# Altium schematic symbol library SamacSys.SchLib: 234 symbols (part 1 of 3)
Pins are listed as number, name and electrical type; pins without a type are passive.

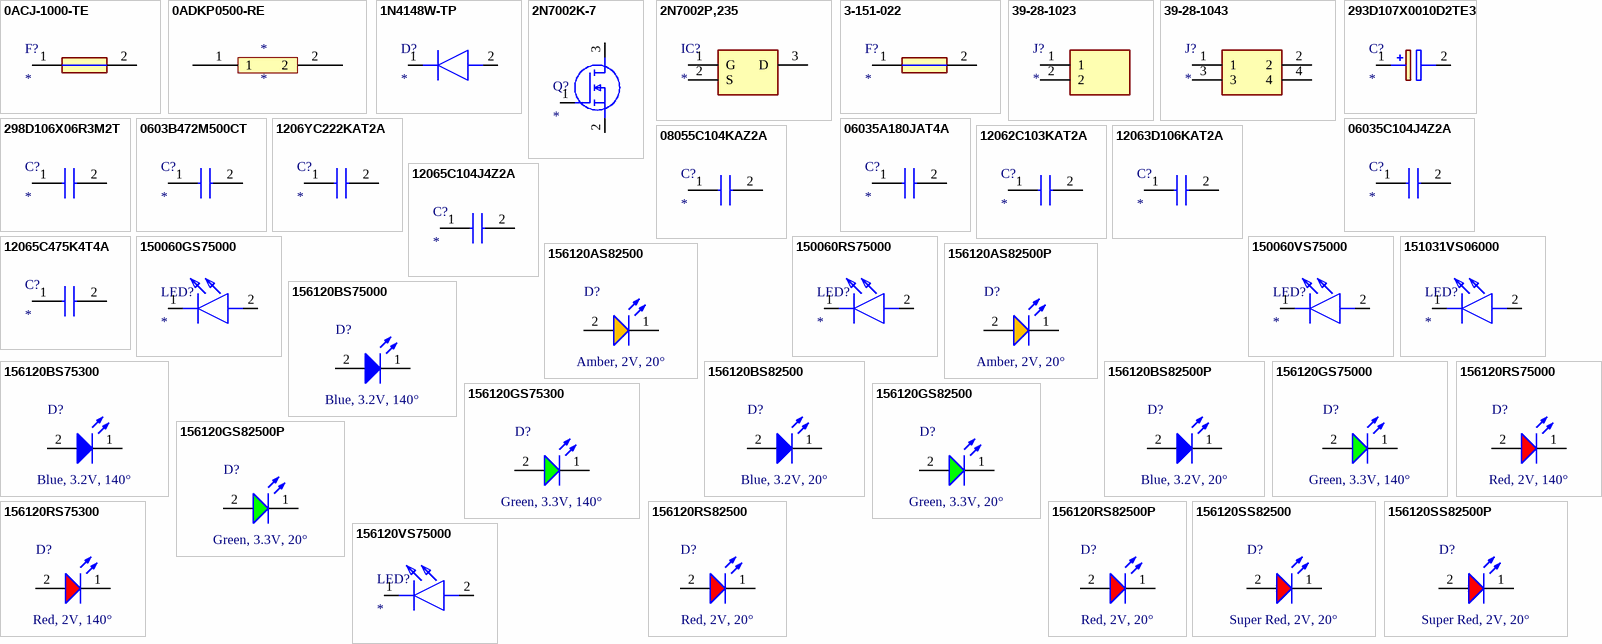
[diagram p0: symbols 0ACJ-1000-TE to 156120VS75000]

## 0ACJ-1000-TE
designator F?
Fuse; Manufacturer_Name: BelFuse; Manufacturer_Part_Number: 0ACJ-1000-TE; Datasheet Link: https://www.mouser.de/datasheet/2/643/ds_CP_0ACJ_series-3045709.pdf; Height: 5.55mm; Mouser Part Number: 530-0ACJ-1000-TE; Mouser Price/Stock: https://www.mouser.co.uk/ProductDetail/Bel-Fuse/0ACJ-1000-TE?qs=T%252BzbugeAwjiHfega9XRYqg%3D%3D; Arrow Part Number: 0ACJ-1000-TE; Arrow Price/Stock: https://www.arrow.com/en/products/0acj-1000-te/bel-group?utm_currency=USD&region=nac
footprint FUSC13250X555N
pins: 1, 2

## 0ADKP0500-RE
designator *
Fuse
footprint 0ADKP0500-RE
pins: 1, 2

## 1N4148W-TP
designator D?
Diode; Manufacturer_Name: MCC; Manufacturer_Part_Number: 1N4148W-TP; Datasheet Link: https://mccsemi.com/pdf/Products/1N4148W(SOD-123).pdf; Height: 1.35mm; Mouser Part Number: 833-1N4148W-TP; Mouser Price/Stock: https://www.mouser.co.uk/ProductDetail/Micro-Commercial-Components-MCC/1N4148W-TP?qs=KFo7JewZbUH7wCMabJ4EeQ%3D%3D; Arrow Part Number: 1N4148W-TP; Arrow Price/Stock: https://www.arrow.com/en/products/1n4148w-tp/micro-commercial-components?utm_currency=USD&region=europe
footprint SOD3715X135N
pins: 1 K, 2 A

## 2N7002K-7
designator Q?
MOSFET (N-Channel); Manufacturer_Name: Diodes Incorporated; Manufacturer_Part_Number: 2N7002K-7; Datasheet Link: https://www.diodes.com//assets/Datasheets/2N7002K.pdf; Height: 1.15mm; Mouser Part Number: 621-2N7002K-7; Mouser Price/Stock: https://www.mouser.co.uk/ProductDetail/Diodes-Incorporated/2N7002K-7?qs=rGAXPo9uwV0%2Fp9r5KJ7huA%3D%3D; Arrow Part Number: 2N7002K-7; Arrow Price/Stock: https://www.arrow.com/en/products/2n7002k-7/diodes-incorporated.html?utm_currency=USD&region=nac
footprint SOT96P240X115-3N
pins: 1 G, 2 S, 3 D

## 2N7002P,235
designator IC?
Integrated Circuit; Manufacturer_Name: Nylofix; Manufacturer_Part_Number: 2N7002P,235; Datasheet Link: https://4donline.ihs.com/images/VipMasterIC/IC/PHGL/PHGLS21946/PHGLS21946-1.pdf?hkey=EF798316E3902B6ED9A73243A3159BB0; Height: 1.1mm
footprint SOT95P230X110-3N
pins: 1 G, 2 S, 3 D

## 3-151-022
designator F?
Fuse; Manufacturer_Name: SCHURTER; Manufacturer_Part_Number: 3-151-022; Datasheet Link: https://www.schurter.com/en/datasheet/AMO_10.3x38
footprint 3151022 (Footprint not found)
pins: 1, 2

## 39-28-1023
designator J?
Connector; Manufacturer_Name: Molex; Datasheet Link: https://www.molex.com/pdm_docs/sd/039281023_sd.pdf; Height: 12.8mm; Manufacturer_Part_Number: 39-28-1023; Mouser Part Number: 538-39-28-1023; Mouser Price/Stock: https://www.mouser.co.uk/ProductDetail/Molex/39-28-1023?qs=LQQHZ4xw2XBykFU0jRHvlQ%3D%3D; Arrow Part Number: 39-28-1023; Arrow Price/Stock: https://www.arrow.com/en/products/39-28-1023/molex?region=nac
footprint 39-28-1023
pins: 1, 2

## 39-28-1043
designator J?
Connector; Manufacturer_Name: Molex; Datasheet Link: https://www.molex.com/pdm_docs/sd/039281023_sd.pdf; Height: 12.8mm; Manufacturer_Part_Number: 39-28-1043; Mouser Part Number: 538-39-28-1043; Mouser Price/Stock: https://www.mouser.co.uk/ProductDetail/Molex/39-28-1043?qs=LQQHZ4xw2XCMHoV0KRLGhg%3D%3D; Arrow Part Number: 39-28-1043; Arrow Price/Stock: https://www.arrow.com/en/products/39-28-1043/molex?region=nac
footprint 39-28-1043
pins: 1, 2, 3, 4

## 293D107X0010D2TE3
designator C?
Capacitor Polarised; Manufacturer_Name: Vishay; Manufacturer_Part_Number: 293D107X0010D2TE3; Datasheet Link: http://www.vishay.com/docs/40002/293d.pdf; Height: 3.1mm; Mouser Part Number: 74-293D107X0010D2TE3; Mouser Price/Stock: https://www.mouser.co.uk/ProductDetail/Vishay-Sprague/293D107X0010D2TE3?qs=N31o%252Bt096gvkKpGVvfLQ0A%3D%3D; Arrow Part Number: 293D107X0010D2TE3; Arrow Price/Stock: https://www.arrow.com/en/products/293d107x0010d2te3/vishay?region=europe
footprint CAPPM7343X310N
pins: 1 +, 2 -

## 298D106X06R3M2T
designator C?
Capacitor; Manufacturer_Name: Vishay; Manufacturer_Part_Number: 298D106X06R3M2T; Datasheet Link: https://www.arrow.com/en/products/298d106x06r3m2t/vishay; Height: 0.6mm; Mouser Part Number: 71-298D106X06R3M2T; Mouser Price/Stock: https://www.mouser.co.uk/ProductDetail/Vishay-Sprague/298D106X06R3M2T?qs=u8huD7HxK6amVvZnhRlfPA%3D%3D; Arrow Part Number: 298D106X06R3M2T; Arrow Price/Stock: https://www.arrow.com/en/products/298d106x06r3m2t/vishay?utm_currency=USD&region=nac
footprint CAPC1005X60N
pins: 1, 2

## 0603B472M500CT
designator C?
Capacitor; Manufacturer_Name: Walsin Technology Corporation; Manufacturer_Part_Number: 0603B472M500CT; Datasheet Link: https://www.passivecomponent.com/wp-content/uploads/datasheet/WTC_MLCC_General_Purpose.pdf; Height: 0.95mm
footprint CAPC1608X95N
pins: 1, 2

## 1206YC222KAT2A
designator C?
Capacitor; Manufacturer_Name: Kyocera AVX; Manufacturer_Part_Number: 1206YC222KAT2A; Mouser Part Number: 581-1206YC222KAT2A; Mouser Price/Stock: https://www.mouser.co.uk/ProductDetail/AVX/1206YC222KAT2A?qs=CvOUr%252B7YgU7sng%252BvNa2zXQ%3D%3D
footprint CAPC3216X94N
pins: 1 C1, 2 C2

## 06035A180JAT4A
designator C?
Capacitor; Manufacturer_Name: Kyocera AVX; Manufacturer_Part_Number: 06035A180JAT4A; Datasheet Link: https://componentsearchengine.com/Datasheets/1/06031A100FAT2A.pdf; Height: 0.9mm; Mouser Part Number: 581-06035A180JAT4A; Mouser Price/Stock: https://www.mouser.co.uk/ProductDetail/AVX/06035A180JAT4A?qs=GMfvKSOiCGHkuDR8fcucAQ%3D%3D
footprint CAPC1608X90N
pins: 1, 2

## 06035C104J4Z2A
designator C?
Capacitor; Manufacturer_Name: Kyocera AVX; Manufacturer_Part_Number: 06035C104J4Z2A; Datasheet Link: https://componentsearchengine.com/Datasheets/1/06031A100FAT2A.pdf; Height: 0.9mm; Mouser Part Number: 581-06035C104J4Z2A; Mouser Price/Stock: https://www.mouser.co.uk/ProductDetail/KYOCERA-AVX/06035C104J4Z2A?qs=Awwwc1gvTnlncvTGCFZvkw%3D%3D; Arrow Part Number: 06035C104J4Z2A; Arrow Price/Stock: https://www.arrow.com/en/products/06035c104j4z2a/avx
footprint CAPC1608X90N
pins: 1, 2

## 08055C104KAZ2A
designator C?
Capacitor; Manufacturer_Name: Kyocera AVX; Manufacturer_Part_Number: 08055C104KAZ2A; Datasheet Link: http://datasheets.avx.com/X7RDielectric.pdf; Height: 0.94mm; Mouser Part Number: 581-08055C104KAZ2A; Mouser Price/Stock: https://www.mouser.co.uk/ProductDetail/KYOCERA-AVX/08055C104KAZ2A?qs=qS4bad6%2Fhx%2FmMvJL3brjow%3D%3D; Arrow Part Number: 08055C104KAZ2A; Arrow Price/Stock: https://www.arrow.com/en/products/08055c104kaz2a/avx
footprint CAPC2012X94N
pins: 1, 2

## 12062C103KAT2A
designator C?
Capacitor; Manufacturer_Name: Kyocera AVX; Manufacturer_Part_Number: 12062C103KAT2A; Datasheet Link: https://componentsearchengine.com/Datasheets/2/12062C103KAT2A.pdf; Height: 0.94mm; Mouser Part Number: 581-12062C103K; Mouser Price/Stock: https://www.mouser.com/Search/Refine.aspx?Keyword=581-12062C103K; Arrow Part Number: 12062C103KAT2A; Arrow Price/Stock: https://www.arrow.com/en/products/12062c103kat2a/avx
footprint CAPC3216X94N
pins: 1, 2

## 12063D106KAT2A
designator C?
Capacitor; Manufacturer_Name: Kyocera AVX; Manufacturer_Part_Number: 12063D106KAT2A; Datasheet Link: https://mouser.componentsearchengine.com/Datasheets/3/12063D106KAT2A.pdf; Height: 2.29mm; Mouser Part Number: 581-12063D106K; Mouser Price/Stock: https://www.mouser.co.uk/ProductDetail/AVX/12063D106KAT2A/?qs=yeMJfaiNeLyJNmMC0AygIQ%3D%3D; Arrow Part Number: 12063D106KAT2A; Arrow Price/Stock: https://www.arrow.com/en/products/12063d106kat2a/avx
footprint CAPC3216X229N
pins: 1, 2

## 12065C104J4Z2A
designator C?
Capacitor; Manufacturer_Name: Kyocera AVX; Manufacturer_Part_Number: 12065C104J4Z2A; Datasheet Link: https://spicat.kyocera-avx.com/product/mlcc/chartview/12065C104J4Z2A/DataSheet/X7R; Height: 0.94mm; Mouser Part Number: 581-12065C104J4Z2A; Mouser Price/Stock: https://www.mouser.com/Search/Refine.aspx?Keyword=581-12065C104J4Z2A
footprint CAPC3216X94N
pins: 1, 2

## 12065C475K4T4A
designator C?
Capacitor; Manufacturer_Name: Kyocera AVX; Manufacturer_Part_Number: 12065C475K4T4A; Datasheet Link: https://www.mouser.in/datasheet/2/40/AutoMLCC-777028.pdf; Height: 1.78mm; Mouser Part Number: 581-12065C475K4T4A; Mouser Price/Stock: https://www.mouser.co.uk/ProductDetail/KYOCERA-AVX/12065C475K4T4A?qs=W0yvOO0ixfHmOPjU%2Fq8Pwg%3D%3D
footprint CAPC3216X178N
pins: 1, 2

## 150060GS75000
designator LED?
LED; Manufacturer_Name: Wurth Elektronik; Manufacturer_Part_Number: 150060GS75000; Datasheet Link: https://www.we-online.com/catalog/datasheet/150060GS75000.pdf; Height: 0.7mm; Mouser Part Number: 710-150060GS75000; Mouser Price/Stock: https://www.mouser.co.uk/ProductDetail/Wurth-Elektronik/150060GS75000?qs=LlUlMxKIyB0UYkq5lDO8nA%3D%3D
footprint LEDC1608X70N
pins: 1 K, 2 A

## 150060RS75000
designator LED?
LED; Manufacturer_Name: Wurth Elektronik; Manufacturer_Part_Number: 150060RS75000; Datasheet Link: https://www.we-online.com/catalog/datasheet/150060RS75000.pdf; Height: 0.7mm; Mouser Part Number: 710-150060RS75000; Mouser Price/Stock: https://www.mouser.co.uk/ProductDetail/Wurth-Elektronik/150060RS75000?qs=LlUlMxKIyB3QnmZ3fw%2FVCA%3D%3D
footprint LEDC1608X70N
pins: 1 K, 2 A

## 150060VS75000
designator LED?
LED; Manufacturer_Name: Wurth Elektronik; Manufacturer_Part_Number: 150060VS75000; Datasheet Link: https://www.we-online.com/catalog/datasheet/150060VS75000.pdf; Height: 0.7mm; Mouser Part Number: 710-150060VS75000; Mouser Price/Stock: https://www.mouser.co.uk/ProductDetail/Wurth-Elektronik/150060VS75000?qs=LlUlMxKIyB1Q1Bi5mQ%2FKLw%3D%3D
footprint LEDC1608X70N
pins: 1 K, 2 A

## 151031VS06000
designator LED?
LED; Manufacturer_Name: Wurth Elektronik; Manufacturer_Part_Number: 151031VS06000; Datasheet Link: https://www.we-online.com/catalog/datasheet/151031VS06000.pdf; Height: 5.3mm; Mouser Part Number: 710-151031VS06000; Mouser Price/Stock: https://www.mouser.co.uk/ProductDetail/Wurth-Elektronik/151031VS06000?qs=LlUlMxKIyB01ggED1iKswA%3D%3D
footprint 151034GS03000
pins: 1 K, 2 A

## 156120AS82500
designator D?, comment Amber, 2V, 20°
WL-SMRW Mono-color Reverse mount Waterclear, SMT, size 1206 dome, Amber, 2V, 20°; Manufacturer Part Number: 156120AS82500; Manufacturer: Wurth Elektronik; Chip Technology: AlInGaP; Dominant Wavelength: 605nm; Luminous Intensity: 2200mcd; Peak Wavelength: 609nm; Category: Signal LEDs; Match Code: WL-SMRW; ComponentLink1Description: Website Link; ComponentLink1URL: https://www.we-online.com/redexpert/article/156120AS82500?ad; ComponentLink2Description: Datasheet Link; ComponentLink2URL: https://www.we-online.com/redexpert/spec/156120AS82500?ad; Mount: Surface Mount; Operating Temperature Max: 85°C; Operating Temperature Min: -40°C; Packaging: Tape and Reel; Case/Size Code: 1206 dome; Length: 3.2mm; Width: 1.6mm; Height: 1.85mm; Emitting Color: Amber; Forward Voltage: 2V; Viewing Angle: 20°
footprint WL-SMRW_1206 dome_reverse use
footprint WL-SMRW_1206 dome_normal use
simulation model 1206_156120AS82500
pins: 1 K, 2 A

## 156120AS82500P
designator D?, comment Amber, 2V, 20°
WL-SMRW Mono-color Reverse mount Waterclear, SMT, size 1206 dome, Amber, 2V, 20°; Manufacturer Part Number: 156120AS82500P; Manufacturer: Wurth Elektronik; Chip Technology: AlInGaP; Dominant Wavelength: 605nm; Luminous Intensity: 2200mcd; Peak Wavelength: 609nm; Category: Signal LEDs; Match Code: WL-SMRW; ComponentLink1Description: Website Link; ComponentLink1URL: https://www.we-online.com/redexpert/article/156120AS82500P?ad; ComponentLink2Description: Datasheet Link; ComponentLink2URL: https://www.we-online.com/redexpert/spec/156120AS82500P?ad; Mount: Surface Mount; Operating Temperature Max: 85°C; Operating Temperature Min: -40°C; Packaging: Tape and Reel; Case/Size Code: 1206 dome; Length: 3.2mm; Width: 1.6mm; Height: 1.85mm; Emitting Color: Amber; Forward Voltage: 2V; Viewing Angle: 20°
footprint WL-SMRW_1206 dome_reverse use
footprint WL-SMRW_1206 dome_normal use
simulation model 1206_156120AS82500P
pins: 1 K, 2 A

## 156120BS75000
designator D?, comment Blue, 3.2V, 140°
WL-SMRW Mono-color Reverse mount Waterclear, SMT, size 1206 rectangular, Blue, 3.2V, 140°; Manufacturer Part Number: 156120BS75000; Manufacturer: Wurth Elektronik; Chip Technology: InGaN; Dominant Wavelength: 470nm; Luminous Intensity: 50mcd; Peak Wavelength: 465nm; Category: Signal LEDs; Match Code: WL-SMRW; ComponentLink1Description: Website Link; ComponentLink1URL: https://www.we-online.com/redexpert/article/156120BS75000?ad; ComponentLink2Description: Datasheet Link; ComponentLink2URL: https://www.we-online.com/redexpert/spec/156120BS75000?ad; Mount: Surface Mount; Operating Temperature Max: 85°C; Operating Temperature Min: -40°C; Packaging: Tape and Reel; Case/Size Code: 1206 rectangular; Length: 3.2mm; Width: 1.6mm; Height: 1.2mm; Emitting Color: Blue; Forward Voltage: 3.2V; Viewing Angle: 140°
footprint WL-SMRW_1206 rectangular_reverse use
footprint WL-SMRW_1206 rectangular_normal use
simulation model 1206_156120BS75000
pins: 1 K, 2 A

## 156120BS75300
designator D?, comment Blue, 3.2V, 140°
WL-SMRW Mono-color Reverse mount Waterclear, SMT, size 1206 cylindrical, Blue, 3.2V, 140°; Manufacturer Part Number: 156120BS75300; Manufacturer: Wurth Elektronik; Chip Technology: InGaN; Dominant Wavelength: 470nm; Luminous Intensity: 50mcd; Peak Wavelength: 465nm; Category: Signal LEDs; Match Code: WL-SMRW; ComponentLink1Description: Website Link; ComponentLink1URL: https://www.we-online.com/redexpert/article/156120BS75300?ad; ComponentLink2Description: Datasheet Link; ComponentLink2URL: https://www.we-online.com/redexpert/spec/156120BS75300?ad; Mount: Surface Mount; Operating Temperature Max: 85°C; Operating Temperature Min: -40°C; Packaging: Tape and Reel; Case/Size Code: 1206 cylindrical; Length: 3.2mm; Width: 1.6mm; Height: 1.2mm; Emitting Color: Blue; Forward Voltage: 3.2V; Viewing Angle: 140°
footprint WL-SMRW_1206 cylindrical_reverse use
footprint WL-SMRW_1206 cylindrical_normal use
simulation model 1206_156120BS75300
pins: 1 K, 2 A

## 156120BS82500
designator D?, comment Blue, 3.2V, 20°
WL-SMRW Mono-color Reverse mount Waterclear, SMT, size 1206 dome, Blue, 3.2V, 20°; Manufacturer Part Number: 156120BS82500; Manufacturer: Wurth Elektronik; Chip Technology: InGaN; Dominant Wavelength: 470nm; Luminous Intensity: 700mcd; Peak Wavelength: 465nm; Category: Signal LEDs; Match Code: WL-SMRW; ComponentLink1Description: Website Link; ComponentLink1URL: https://www.we-online.com/redexpert/article/156120BS82500?ad; ComponentLink2Description: Datasheet Link; ComponentLink2URL: https://www.we-online.com/redexpert/spec/156120BS82500?ad; Mount: Surface Mount; Operating Temperature Max: 85°C; Operating Temperature Min: -40°C; Packaging: Tape and Reel; Case/Size Code: 1206 dome; Length: 3.2mm; Width: 1.6mm; Height: 1.85mm; Emitting Color: Blue; Forward Voltage: 3.2V; Viewing Angle: 20°
footprint WL-SMRW_1206 dome_reverse use
footprint WL-SMRW_1206 dome_normal use
simulation model 1206_156120BS82500
pins: 1 K, 2 A

## 156120BS82500P
designator D?, comment Blue, 3.2V, 20°
WL-SMRW Mono-color Reverse mount Waterclear, SMT, size 1206 dome, Blue, 3.2V, 20°; Manufacturer Part Number: 156120BS82500P; Manufacturer: Wurth Elektronik; Chip Technology: InGaN; Dominant Wavelength: 470nm; Luminous Intensity: 700mcd; Peak Wavelength: 465nm; Category: Signal LEDs; Match Code: WL-SMRW; ComponentLink1Description: Website Link; ComponentLink1URL: https://www.we-online.com/redexpert/article/156120BS82500P?ad; ComponentLink2Description: Datasheet Link; ComponentLink2URL: https://www.we-online.com/redexpert/spec/156120BS82500P?ad; Mount: Surface Mount; Operating Temperature Max: 85°C; Operating Temperature Min: -40°C; Packaging: Tape and Reel; Case/Size Code: 1206 dome; Length: 3.2mm; Width: 1.6mm; Height: 1.85mm; Emitting Color: Blue; Forward Voltage: 3.2V; Viewing Angle: 20°
footprint WL-SMRW_1206 dome_reverse use
footprint WL-SMRW_1206 dome_normal use
simulation model 1206_156120BS82500P
pins: 1 K, 2 A

## 156120GS75000
designator D?, comment Green, 3.3V, 140°
WL-SMRW Mono-color Reverse mount Waterclear, SMT, size 1206 rectangular, Green, 3.3V, 140°; Manufacturer Part Number: 156120GS75000; Manufacturer: Wurth Elektronik; Chip Technology: InGaN; Dominant Wavelength: 525nm; Luminous Intensity: 235mcd; Peak Wavelength: 520nm; Category: Signal LEDs; Match Code: WL-SMRW; ComponentLink1Description: Website Link; ComponentLink1URL: https://www.we-online.com/redexpert/article/156120GS75000?ad; ComponentLink2Description: Datasheet Link; ComponentLink2URL: https://www.we-online.com/redexpert/spec/156120GS75000?ad; Mount: Surface Mount; Operating Temperature Max: 85°C; Operating Temperature Min: -40°C; Packaging: Tape and Reel; Case/Size Code: 1206 rectangular; Length: 3.2mm; Width: 1.6mm; Height: 1.2mm; Emitting Color: Green; Forward Voltage: 3.3V; Viewing Angle: 140°
footprint WL-SMRW_1206 rectangular_reverse use
footprint WL-SMRW_1206 rectangular_normal use
simulation model 1206_156120GS75000
pins: 1 K, 2 A

## 156120GS75300
designator D?, comment Green, 3.3V, 140°
WL-SMRW Mono-color Reverse mount Waterclear, SMT, size 1206 cylindrical, Green, 3.3V, 140°; Manufacturer Part Number: 156120GS75300; Manufacturer: Wurth Elektronik; Chip Technology: InGaN; Dominant Wavelength: 525nm; Luminous Intensity: 235mcd; Peak Wavelength: 520nm; Category: Signal LEDs; Match Code: WL-SMRW; ComponentLink1Description: Website Link; ComponentLink1URL: https://www.we-online.com/redexpert/article/156120GS75300?ad; ComponentLink2Description: Datasheet Link; ComponentLink2URL: https://www.we-online.com/redexpert/spec/156120GS75300?ad; Mount: Surface Mount; Operating Temperature Max: 85°C; Operating Temperature Min: -40°C; Packaging: Tape and Reel; Case/Size Code: 1206 cylindrical; Length: 3.2mm; Width: 1.6mm; Height: 1.2mm; Emitting Color: Green; Forward Voltage: 3.3V; Viewing Angle: 140°
footprint WL-SMRW_1206 cylindrical_reverse use
footprint WL-SMRW_1206 cylindrical_normal use
simulation model 1206_156120GS75300
pins: 1 K, 2 A

## 156120GS82500
designator D?, comment Green, 3.3V, 20°
WL-SMRW Mono-color Reverse mount Waterclear, SMT, size 1206 dome, Green, 3.3V, 20°; Manufacturer Part Number: 156120GS82500; Manufacturer: Wurth Elektronik; Chip Technology: InGaN; Dominant Wavelength: 525nm; Luminous Intensity: 1500mcd; Peak Wavelength: 520nm; Category: Signal LEDs; Match Code: WL-SMRW; ComponentLink1Description: Website Link; ComponentLink1URL: https://www.we-online.com/redexpert/article/156120GS82500?ad; ComponentLink2Description: Datasheet Link; ComponentLink2URL: https://www.we-online.com/redexpert/spec/156120GS82500?ad; Mount: Surface Mount; Operating Temperature Max: 85°C; Operating Temperature Min: -40°C; Packaging: Tape and Reel; Case/Size Code: 1206 dome; Length: 3.2mm; Width: 1.6mm; Height: 1.85mm; Emitting Color: Green; Forward Voltage: 3.3V; Viewing Angle: 20°
footprint WL-SMRW_1206 dome_reverse use
footprint WL-SMRW_1206 dome_normal use
simulation model 1206_156120GS82500
pins: 1 K, 2 A

## 156120GS82500P
designator D?, comment Green, 3.3V, 20°
WL-SMRW Mono-color Reverse mount Waterclear, SMT, size 1206 dome, Green, 3.3V, 20°; Manufacturer Part Number: 156120GS82500P; Manufacturer: Wurth Elektronik; Chip Technology: InGaN; Dominant Wavelength: 525nm; Luminous Intensity: 1500mcd; Peak Wavelength: 520nm; Category: Signal LEDs; Match Code: WL-SMRW; ComponentLink1Description: Website Link; ComponentLink1URL: https://www.we-online.com/redexpert/article/156120GS82500P?ad; ComponentLink2Description: Datasheet Link; ComponentLink2URL: https://www.we-online.com/redexpert/spec/156120GS82500P?ad; Mount: Surface Mount; Operating Temperature Max: 85°C; Operating Temperature Min: -40°C; Packaging: Tape and Reel; Case/Size Code: 1206 dome; Length: 3.2mm; Width: 1.6mm; Height: 1.85mm; Emitting Color: Green; Forward Voltage: 3.3V; Viewing Angle: 20°
footprint WL-SMRW_1206 dome_reverse use
footprint WL-SMRW_1206 dome_normal use
simulation model 1206_156120GS82500P
pins: 1 K, 2 A

## 156120RS75000
designator D?, comment Red, 2V, 140°
WL-SMRW Mono-color Reverse mount Waterclear, SMT, size 1206 rectangular, Red, 2V, 140°; Manufacturer Part Number: 156120RS75000; Manufacturer: Wurth Elektronik; Chip Technology: AlInGaP; Dominant Wavelength: 624nm; Luminous Intensity: 60mcd; Peak Wavelength: 632nm; Category: Signal LEDs; Match Code: WL-SMRW; ComponentLink1Description: Website Link; ComponentLink1URL: https://www.we-online.com/redexpert/article/156120RS75000?ad; ComponentLink2Description: Datasheet Link; ComponentLink2URL: https://www.we-online.com/redexpert/spec/156120RS75000?ad; Mount: Surface Mount; Operating Temperature Max: 85°C; Operating Temperature Min: -40°C; Packaging: Tape and Reel; Case/Size Code: 1206 rectangular; Length: 3.2mm; Width: 1.6mm; Height: 1.2mm; Emitting Color: Red; Forward Voltage: 2V; Viewing Angle: 140°
footprint WL-SMRW_1206 rectangular_reverse use
footprint WL-SMRW_1206 rectangular_normal use
simulation model 1206_156120RS75000
pins: 1 K, 2 A

## 156120RS75300
designator D?, comment Red, 2V, 140°
WL-SMRW Mono-color Reverse mount Waterclear, SMT, size 1206 cylindrical, Red, 2V, 140°; Manufacturer Part Number: 156120RS75300; Manufacturer: Wurth Elektronik; Chip Technology: AlInGaP; Dominant Wavelength: 624nm; Luminous Intensity: 60mcd; Peak Wavelength: 632nm; Category: Signal LEDs; Match Code: WL-SMRW; ComponentLink1Description: Website Link; ComponentLink1URL: https://www.we-online.com/redexpert/article/156120RS75300?ad; ComponentLink2Description: Datasheet Link; ComponentLink2URL: https://www.we-online.com/redexpert/spec/156120RS75300?ad; Mount: Surface Mount; Operating Temperature Max: 85°C; Operating Temperature Min: -40°C; Packaging: Tape and Reel; Case/Size Code: 1206 cylindrical; Length: 3.2mm; Width: 1.6mm; Height: 1.2mm; Emitting Color: Red; Forward Voltage: 2V; Viewing Angle: 140°
footprint WL-SMRW_1206 cylindrical_reverse use
footprint WL-SMRW_1206 cylindrical_normal use
simulation model 1206_156120RS75300
pins: 1 K, 2 A

## 156120RS82500
designator D?, comment Red, 2V, 20°
WL-SMRW Mono-color Reverse mount Waterclear, SMT, size 1206 dome, Red, 2V, 20°; Manufacturer Part Number: 156120RS82500; Manufacturer: Wurth Elektronik; Chip Technology: AlInGaP; Dominant Wavelength: 624nm; Luminous Intensity: 1100mcd; Peak Wavelength: 632nm; Category: Signal LEDs; Match Code: WL-SMRW; ComponentLink1Description: Website Link; ComponentLink1URL: https://www.we-online.com/redexpert/article/156120RS82500?ad; ComponentLink2Description: Datasheet Link; ComponentLink2URL: https://www.we-online.com/redexpert/spec/156120RS82500?ad; Mount: Surface Mount; Operating Temperature Max: 85°C; Operating Temperature Min: -40°C; Packaging: Tape and Reel; Case/Size Code: 1206 dome; Length: 3.2mm; Width: 1.6mm; Height: 1.85mm; Emitting Color: Red; Forward Voltage: 2V; Viewing Angle: 20°
footprint WL-SMRW_1206 dome_reverse use
footprint WL-SMRW_1206 dome_normal use
simulation model 1206_156120RS82500
pins: 1 K, 2 A

## 156120RS82500P
designator D?, comment Red, 2V, 20°
WL-SMRW Mono-color Reverse mount Waterclear, SMT, size 1206 dome, Red, 2V, 20°; Manufacturer Part Number: 156120RS82500P; Manufacturer: Wurth Elektronik; Chip Technology: AlInGaP; Dominant Wavelength: 624nm; Luminous Intensity: 1100mcd; Peak Wavelength: 632nm; Category: Signal LEDs; Match Code: WL-SMRW; ComponentLink1Description: Website Link; ComponentLink1URL: https://www.we-online.com/redexpert/article/156120RS82500P?ad; ComponentLink2Description: Datasheet Link; ComponentLink2URL: https://www.we-online.com/redexpert/spec/156120RS82500P?ad; Mount: Surface Mount; Operating Temperature Max: 85°C; Operating Temperature Min: -40°C; Packaging: Tape and Reel; Case/Size Code: 1206 dome; Length: 3.2mm; Width: 1.6mm; Height: 1.85mm; Emitting Color: Red; Forward Voltage: 2V; Viewing Angle: 20°
footprint WL-SMRW_1206 dome_reverse use
footprint WL-SMRW_1206 dome_normal use
simulation model 1206_156120RS82500P
pins: 1 K, 2 A

## 156120SS82500
designator D?, comment Super Red, 2V, 20°
WL-SMRW Mono-color Reverse mount Waterclear, SMT, size 1206 dome, Super Red, 2V, 20°; Manufacturer Part Number: 156120SS82500; Manufacturer: Wurth Elektronik; Chip Technology: AlInGaP; Dominant Wavelength: 630nm; Luminous Intensity: 900mcd; Peak Wavelength: 645nm; Category: Signal LEDs; Match Code: WL-SMRW; ComponentLink1Description: Website Link; ComponentLink1URL: https://www.we-online.com/redexpert/article/156120SS82500?ad; ComponentLink2Description: Datasheet Link; ComponentLink2URL: https://www.we-online.com/redexpert/spec/156120SS82500?ad; Mount: Surface Mount; Operating Temperature Max: 85°C; Operating Temperature Min: -40°C; Packaging: Tape and Reel; Case/Size Code: 1206 dome; Length: 3.2mm; Width: 1.6mm; Height: 1.85mm; Emitting Color: Super Red; Forward Voltage: 2V; Viewing Angle: 20°
footprint WL-SMRW_1206 dome_reverse use
footprint WL-SMRW_1206 dome_normal use
simulation model 1206_156120SS82500
pins: 1 K, 2 A

## 156120SS82500P
designator D?, comment Super Red, 2V, 20°
WL-SMRW Mono-color Reverse mount Waterclear, SMT, size 1206 dome, Super Red, 2V, 20°; Manufacturer Part Number: 156120SS82500P; Manufacturer: Wurth Elektronik; Chip Technology: AlInGaP; Dominant Wavelength: 630nm; Luminous Intensity: 900mcd; Peak Wavelength: 645nm; Category: Signal LEDs; Match Code: WL-SMRW; ComponentLink1Description: Website Link; ComponentLink1URL: https://www.we-online.com/redexpert/article/156120SS82500P?ad; ComponentLink2Description: Datasheet Link; ComponentLink2URL: https://www.we-online.com/redexpert/spec/156120SS82500P?ad; Mount: Surface Mount; Operating Temperature Max: 85°C; Operating Temperature Min: -40°C; Packaging: Tape and Reel; Case/Size Code: 1206 dome; Length: 3.2mm; Width: 1.6mm; Height: 1.85mm; Emitting Color: Super Red; Forward Voltage: 2V; Viewing Angle: 20°
footprint WL-SMRW_1206 dome_reverse use
footprint WL-SMRW_1206 dome_normal use
simulation model 1206_156120SS82500P
pins: 1 K, 2 A

## 156120VS75000
designator LED?
LED; Manufacturer_Name: Wurth Elektronik; Manufacturer_Part_Number: 156120VS75000; Datasheet Link: https://www.we-online.com/components/products/datasheet/156120VS75000.pdf; Height: 1.3mm; Mouser Part Number: 710-156120VS75000; Mouser Price/Stock: https://www.mouser.co.uk/ProductDetail/Wurth-Elektronik/156120VS75000?qs=2kOmHSv6VfQAUFg5BeuEfQ%3D%3D
footprint 156120VS75000
pins: 1 K, 2 A

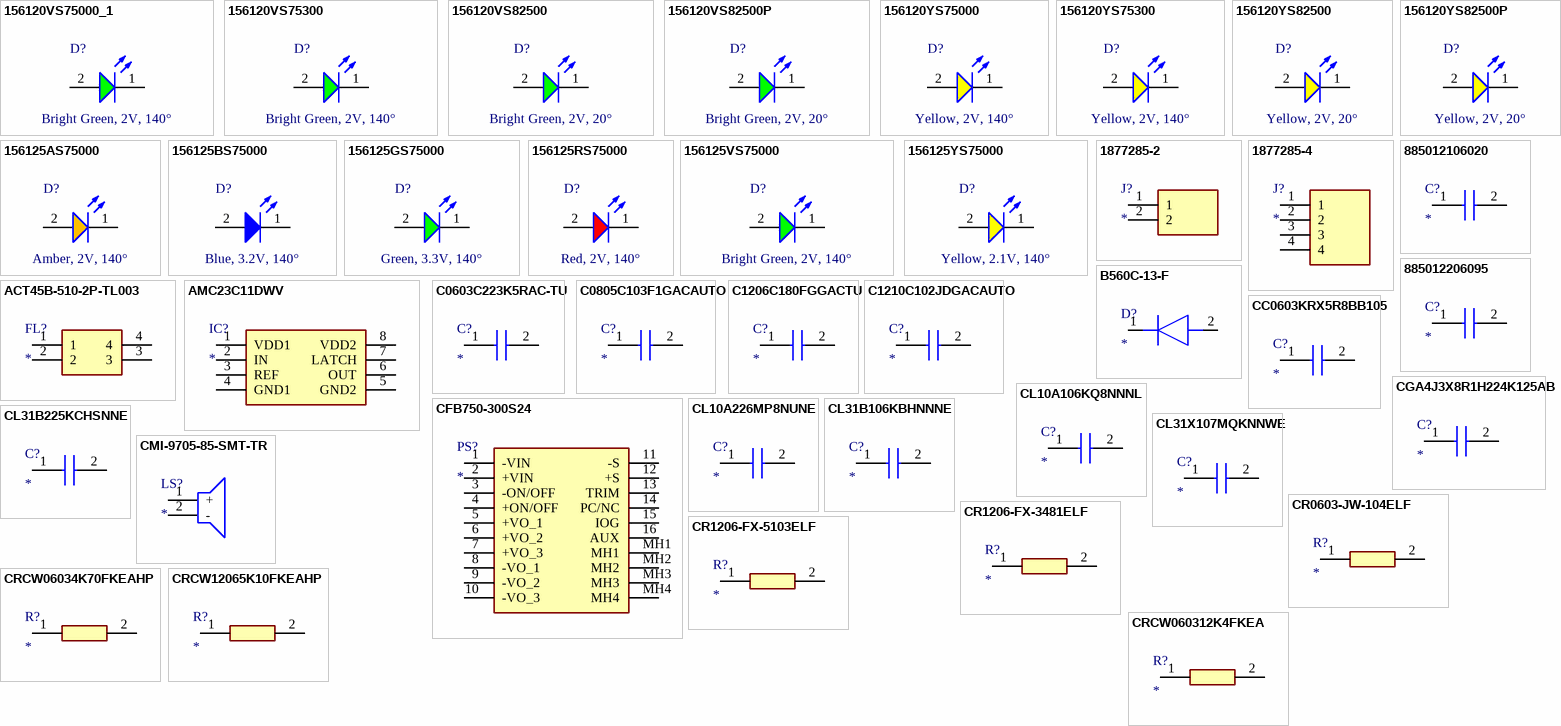
[diagram p1: symbols 156120VS75000_1 to CRCW060312K4FKEA]

## 156120VS75000_1
designator D?, comment Bright Green, 2V, 140°
WL-SMRW Mono-color Reverse mount Waterclear, SMT, size 1206 rectangular, Bright Green, 2V, 140°; Manufacturer Part Number: 156120VS75000; Manufacturer: Wurth Elektronik; Chip Technology: AlInGaP; Dominant Wavelength: 573nm; Luminous Intensity: 30mcd; Peak Wavelength: 575nm; Category: Signal LEDs; Match Code: WL-SMRW; ComponentLink1Description: Website Link; ComponentLink1URL: https://www.we-online.com/redexpert/article/156120VS75000?ad; ComponentLink2Description: Datasheet Link; ComponentLink2URL: https://www.we-online.com/redexpert/spec/156120VS75000?ad; Mount: Surface Mount; Operating Temperature Max: 85°C; Operating Temperature Min: -40°C; Packaging: Tape and Reel; Case/Size Code: 1206 rectangular; Length: 3.2mm; Width: 1.6mm; Height: 1.2mm; Emitting Color: Bright Green; Forward Voltage: 2V; Viewing Angle: 140°
footprint WL-SMRW_1206 rectangular_reverse use
footprint WL-SMRW_1206 rectangular_normal use
simulation model 1206_156120VS75000
pins: 1 K, 2 A

## 156120VS75300
designator D?, comment Bright Green, 2V, 140°
WL-SMRW Mono-color Reverse mount Waterclear, SMT, size 1206 cylindrical, Bright Green, 2V, 140°; Manufacturer Part Number: 156120VS75300; Manufacturer: Wurth Elektronik; Chip Technology: AlInGaP; Dominant Wavelength: 573nm; Luminous Intensity: 30mcd; Peak Wavelength: 575nm; Category: Signal LEDs; Match Code: WL-SMRW; ComponentLink1Description: Website Link; ComponentLink1URL: https://www.we-online.com/redexpert/article/156120VS75300?ad; ComponentLink2Description: Datasheet Link; ComponentLink2URL: https://www.we-online.com/redexpert/spec/156120VS75300?ad; Mount: Surface Mount; Operating Temperature Max: 85°C; Operating Temperature Min: -40°C; Packaging: Tape and Reel; Case/Size Code: 1206 cylindrical; Length: 3.2mm; Width: 1.6mm; Height: 1.2mm; Emitting Color: Bright Green; Forward Voltage: 2V; Viewing Angle: 140°
footprint WL-SMRW_1206 cylindrical_reverse use
footprint WL-SMRW_1206 cylindrical_normal use
simulation model 1206_156120VS75300
pins: 1 K, 2 A

## 156120VS82500
designator D?, comment Bright Green, 2V, 20°
WL-SMRW Mono-color Reverse mount Waterclear, SMT, size 1206 dome, Bright Green, 2V, 20°; Manufacturer Part Number: 156120VS82500; Manufacturer: Wurth Elektronik; Chip Technology: AlInGaP; Dominant Wavelength: 573nm; Luminous Intensity: 1050mcd; Peak Wavelength: 575nm; Category: Signal LEDs; Match Code: WL-SMRW; ComponentLink1Description: Website Link; ComponentLink1URL: https://www.we-online.com/redexpert/article/156120VS82500?ad; ComponentLink2Description: Datasheet Link; ComponentLink2URL: https://www.we-online.com/redexpert/spec/156120VS82500?ad; Mount: Surface Mount; Operating Temperature Max: 85°C; Operating Temperature Min: -40°C; Packaging: Tape and Reel; Case/Size Code: 1206 dome; Length: 3.2mm; Width: 1.6mm; Height: 1.85mm; Emitting Color: Bright Green; Forward Voltage: 2V; Viewing Angle: 20°
footprint WL-SMRW_1206 dome_reverse use
footprint WL-SMRW_1206 dome_normal use
simulation model 1206_156120VS82500
pins: 1 K, 2 A

## 156120VS82500P
designator D?, comment Bright Green, 2V, 20°
WL-SMRW Mono-color Reverse mount Waterclear, SMT, size 1206 dome, Bright Green, 2V, 20°; Manufacturer Part Number: 156120VS82500P; Manufacturer: Wurth Elektronik; Chip Technology: AlInGaP; Dominant Wavelength: 573nm; Luminous Intensity: 1050mcd; Peak Wavelength: 575nm; Category: Signal LEDs; Match Code: WL-SMRW; ComponentLink1Description: Website Link; ComponentLink1URL: https://www.we-online.com/redexpert/article/156120VS82500P?ad; ComponentLink2Description: Datasheet Link; ComponentLink2URL: https://www.we-online.com/redexpert/spec/156120VS82500P?ad; Mount: Surface Mount; Operating Temperature Max: 85°C; Operating Temperature Min: -40°C; Packaging: Tape and Reel; Case/Size Code: 1206 dome; Length: 3.2mm; Width: 1.6mm; Height: 1.85mm; Emitting Color: Bright Green; Forward Voltage: 2V; Viewing Angle: 20°
footprint WL-SMRW_1206 dome_reverse use
footprint WL-SMRW_1206 dome_normal use
simulation model 1206_156120VS82500P
pins: 1 K, 2 A

## 156120YS75000
designator D?, comment Yellow, 2V, 140°
WL-SMRW Mono-color Reverse mount Waterclear, SMT, size 1206 rectangular, Yellow, 2V, 140°; Manufacturer Part Number: 156120YS75000; Manufacturer: Wurth Elektronik; Chip Technology: AlInGaP; Dominant Wavelength: 589nm; Luminous Intensity: 80mcd; Peak Wavelength: 592nm; Category: Signal LEDs; Match Code: WL-SMRW; ComponentLink1Description: Website Link; ComponentLink1URL: https://www.we-online.com/redexpert/article/156120YS75000?ad; ComponentLink2Description: Datasheet Link; ComponentLink2URL: https://www.we-online.com/redexpert/spec/156120YS75000?ad; Mount: Surface Mount; Operating Temperature Max: 85°C; Operating Temperature Min: -40°C; Packaging: Tape and Reel; Case/Size Code: 1206 rectangular; Length: 3.2mm; Width: 1.6mm; Height: 1.2mm; Emitting Color: Yellow; Forward Voltage: 2V; Viewing Angle: 140°
footprint WL-SMRW_1206 rectangular_reverse use
footprint WL-SMRW_1206 rectangular_normal use
simulation model 1206_156120YS75000
pins: 1 K, 2 A

## 156120YS75300
designator D?, comment Yellow, 2V, 140°
WL-SMRW Mono-color Reverse mount Waterclear, SMT, size 1206 cylindrical, Yellow, 2V, 140°; Manufacturer Part Number: 156120YS75300; Manufacturer: Wurth Elektronik; Chip Technology: AlInGaP; Dominant Wavelength: 589nm; Luminous Intensity: 80mcd; Peak Wavelength: 592nm; Category: Signal LEDs; Match Code: WL-SMRW; ComponentLink1Description: Website Link; ComponentLink1URL: https://www.we-online.com/redexpert/article/156120YS75300?ad; ComponentLink2Description: Datasheet Link; ComponentLink2URL: https://www.we-online.com/redexpert/spec/156120YS75300?ad; Mount: Surface Mount; Operating Temperature Max: 85°C; Operating Temperature Min: -40°C; Packaging: Tape and Reel; Case/Size Code: 1206 cylindrical; Length: 3.2mm; Width: 1.6mm; Height: 1.2mm; Emitting Color: Yellow; Forward Voltage: 2V; Viewing Angle: 140°
footprint WL-SMRW_1206 cylindrical_reverse use
footprint WL-SMRW_1206 cylindrical_normal use
simulation model 1206_156120YS75300
pins: 1 K, 2 A

## 156120YS82500
designator D?, comment Yellow, 2V, 20°
WL-SMRW Mono-color Reverse mount Waterclear, SMT, size 1206 dome, Yellow, 2V, 20°; Manufacturer Part Number: 156120YS82500; Manufacturer: Wurth Elektronik; Chip Technology: AlInGaP; Dominant Wavelength: 589nm; Luminous Intensity: 1400mcd; Peak Wavelength: 591nm; Category: Signal LEDs; Match Code: WL-SMRW; ComponentLink1Description: Website Link; ComponentLink1URL: https://www.we-online.com/redexpert/article/156120YS82500?ad; ComponentLink2Description: Datasheet Link; ComponentLink2URL: https://www.we-online.com/redexpert/spec/156120YS82500?ad; Mount: Surface Mount; Operating Temperature Max: 85°C; Operating Temperature Min: -40°C; Packaging: Tape and Reel; Case/Size Code: 1206 dome; Length: 3.2mm; Width: 1.6mm; Height: 1.85mm; Emitting Color: Yellow; Forward Voltage: 2V; Viewing Angle: 20°
footprint WL-SMRW_1206 dome_reverse use
footprint WL-SMRW_1206 dome_normal use
simulation model 1206_156120YS82500
pins: 1 K, 2 A

## 156120YS82500P
designator D?, comment Yellow, 2V, 20°
WL-SMRW Mono-color Reverse mount Waterclear, SMT, size 1206 dome, Yellow, 2V, 20°; Manufacturer Part Number: 156120YS82500P; Manufacturer: Wurth Elektronik; Chip Technology: AlInGaP; Dominant Wavelength: 589nm; Luminous Intensity: 1400mcd; Peak Wavelength: 591nm; Category: Signal LEDs; Match Code: WL-SMRW; ComponentLink1Description: Website Link; ComponentLink1URL: https://www.we-online.com/redexpert/article/156120YS82500P?ad; ComponentLink2Description: Datasheet Link; ComponentLink2URL: https://www.we-online.com/redexpert/spec/156120YS82500P?ad; Mount: Surface Mount; Operating Temperature Max: 85°C; Operating Temperature Min: -40°C; Packaging: Tape and Reel; Case/Size Code: 1206 dome; Length: 3.2mm; Width: 1.6mm; Height: 1.85mm; Emitting Color: Yellow; Forward Voltage: 2V; Viewing Angle: 20°
footprint WL-SMRW_1206 dome_reverse use
footprint WL-SMRW_1206 dome_normal use
simulation model 1206_156120YS82500P
pins: 1 K, 2 A

## 156125AS75000
designator D?, comment Amber, 2V, 140°
WL-SMRW Mono-color Reverse mount Waterclear, SMT, size 1205, Amber, 2V, 140°; Manufacturer Part Number: 156125AS75000; Manufacturer: Wurth Elektronik; Case/Size Code: 1205; Chip Technology: AlInGaP; Dominant Wavelength: 605nm; Luminous Intensity: 100mcd; Peak Wavelength: 609nm; Category: Signal LEDs; Match Code: WL-SMRW; ComponentLink1Description: Website Link; ComponentLink1URL: https://www.we-online.com/redexpert/article/156125AS75000?ad; ComponentLink2Description: Datasheet Link; ComponentLink2URL: https://www.we-online.com/redexpert/spec/156125AS75000?ad; Mount: Surface Mount; Operating Temperature Max: 85°C; Operating Temperature Min: -40°C; Packaging: Tape and Reel; Length: 3.2mm; Width: 1.2mm; Height: 1.1mm; Emitting Color: Amber; Forward Voltage: 2V; Viewing Angle: 140°
footprint WL-SMRW_1205_reverse use
footprint WL-SMRW_1205_normal use
simulation model 1205_156125AS75000
pins: 1 K, 2 A

## 156125BS75000
designator D?, comment Blue, 3.2V, 140°
WL-SMRW Mono-color Reverse mount Waterclear, SMT, size 1205, Blue, 3.2V, 140°; Manufacturer Part Number: 156125BS75000; Manufacturer: Wurth Elektronik; Case/Size Code: 1205; Chip Technology: InGaN; Dominant Wavelength: 470nm; Luminous Intensity: 120mcd; Peak Wavelength: 465nm; Category: Signal LEDs; Match Code: WL-SMRW; ComponentLink1Description: Website Link; ComponentLink1URL: https://www.we-online.com/redexpert/article/156125BS75000?ad; ComponentLink2Description: Datasheet Link; ComponentLink2URL: https://www.we-online.com/redexpert/spec/156125BS75000?ad; Mount: Surface Mount; Operating Temperature Max: 85°C; Operating Temperature Min: -40°C; Packaging: Tape and Reel; Length: 3.2mm; Width: 1.2mm; Height: 1.1mm; Emitting Color: Blue; Forward Voltage: 3.2V; Viewing Angle: 140°
footprint WL-SMRW_1205_reverse use
footprint WL-SMRW_1205_normal use
simulation model 1205_156125BS75000
pins: 1 K, 2 A

## 156125GS75000
designator D?, comment Green, 3.3V, 140°
WL-SMRW Mono-color Reverse mount Waterclear, SMT, size 1205, Green, 3.3V, 140°; Manufacturer Part Number: 156125GS75000; Manufacturer: Wurth Elektronik; Case/Size Code: 1205; Chip Technology: InGaN; Dominant Wavelength: 525nm; Luminous Intensity: 450mcd; Peak Wavelength: 520nm; Category: Signal LEDs; Match Code: WL-SMRW; ComponentLink1Description: Website Link; ComponentLink1URL: https://www.we-online.com/redexpert/article/156125GS75000?ad; ComponentLink2Description: Datasheet Link; ComponentLink2URL: https://www.we-online.com/redexpert/spec/156125GS75000?ad; Mount: Surface Mount; Operating Temperature Max: 85°C; Operating Temperature Min: -40°C; Packaging: Tape and Reel; Length: 3.2mm; Width: 1.2mm; Height: 1.1mm; Emitting Color: Green; Forward Voltage: 3.3V; Viewing Angle: 140°
footprint WL-SMRW_1205_reverse use
footprint WL-SMRW_1205_normal use
simulation model 1205_156125GS75000
pins: 1 K, 2 A

## 156125RS75000
designator D?, comment Red, 2V, 140°
WL-SMRW Mono-color Reverse mount Waterclear, SMT, size 1205, Red, 2V, 140°; Manufacturer Part Number: 156125RS75000; Manufacturer: Wurth Elektronik; Case/Size Code: 1205; Chip Technology: AlInGaP; Dominant Wavelength: 624nm; Luminous Intensity: 110mcd; Peak Wavelength: 632nm; Category: Signal LEDs; Match Code: WL-SMRW; ComponentLink1Description: Website Link; ComponentLink1URL: https://www.we-online.com/redexpert/article/156125RS75000?ad; ComponentLink2Description: Datasheet Link; ComponentLink2URL: https://www.we-online.com/redexpert/spec/156125RS75000?ad; Mount: Surface Mount; Operating Temperature Max: 85°C; Operating Temperature Min: -40°C; Packaging: Tape and Reel; Length: 3.2mm; Width: 1.2mm; Height: 1.1mm; Emitting Color: Red; Forward Voltage: 2V; Viewing Angle: 140°
footprint WL-SMRW_1205_reverse use
footprint WL-SMRW_1205_normal use
simulation model 1205_156125RS75000
pins: 1 K, 2 A

## 156125VS75000
designator D?, comment Bright Green, 2V, 140°
WL-SMRW Mono-color Reverse mount Waterclear, SMT, size 1205, Bright Green, 2V, 140°; Manufacturer Part Number: 156125VS75000; Manufacturer: Wurth Elektronik; Case/Size Code: 1205; Chip Technology: AlInGaP; Dominant Wavelength: 573nm; Luminous Intensity: 45mcd; Peak Wavelength: 575nm; Category: Signal LEDs; Match Code: WL-SMRW; ComponentLink1Description: Website Link; ComponentLink1URL: https://www.we-online.com/redexpert/article/156125VS75000?ad; ComponentLink2Description: Datasheet Link; ComponentLink2URL: https://www.we-online.com/redexpert/spec/156125VS75000?ad; Mount: Surface Mount; Operating Temperature Max: 85°C; Operating Temperature Min: -40°C; Packaging: Tape and Reel; Length: 3.2mm; Width: 1.2mm; Height: 1.1mm; Emitting Color: Bright Green; Forward Voltage: 2V; Viewing Angle: 140°
footprint WL-SMRW_1205_reverse use
footprint WL-SMRW_1205_normal use
simulation model 1205_156125VS75000
pins: 1 K, 2 A

## 156125YS75000
designator D?, comment Yellow, 2.1V, 140°
WL-SMRW Mono-color Reverse mount Waterclear, SMT, size 1205, Yellow, 2.1V, 140°; Manufacturer Part Number: 156125YS75000; Manufacturer: Wurth Elektronik; Case/Size Code: 1205; Chip Technology: AlInGaP; Dominant Wavelength: 589nm; Luminous Intensity: 70mcd; Peak Wavelength: 591nm; Category: Signal LEDs; Match Code: WL-SMRW; ComponentLink1Description: Website Link; ComponentLink1URL: https://www.we-online.com/redexpert/article/156125YS75000?ad; ComponentLink2Description: Datasheet Link; ComponentLink2URL: https://www.we-online.com/redexpert/spec/156125YS75000?ad; Mount: Surface Mount; Operating Temperature Max: 85°C; Operating Temperature Min: -40°C; Packaging: Tape and Reel; Length: 3.2mm; Width: 1.2mm; Height: 1.1mm; Emitting Color: Yellow; Forward Voltage: 2.1V; Viewing Angle: 140°
footprint WL-SMRW_1205_reverse use
footprint WL-SMRW_1205_normal use
simulation model 1205_156125YS75000
pins: 1 K, 2 A

## 1877285-2
designator J?
Connector; Manufacturer_Name: TE Connectivity; Manufacturer_Part_Number: 1877285-2; Datasheet Link: https://www.te.com/commerce/DocumentDelivery/DDEController?Action=srchrtrv&DocNm=7-1773458-5_ECONOMY_POWER_QRG&DocType=Data%20Sheet&DocLang=English&PartCntxt=1877285-2&DocFormat=pdf; Height: 12mm; Mouser Part Number: 571-1877285-2; Mouser Price/Stock: https://www.mouser.co.uk/ProductDetail/TE-Connectivity/1877285-2?qs=ka3zfMQDmFlAIZq5pDt5JA%3D%3D; Arrow Part Number: 1877285-2; Arrow Price/Stock: https://www.arrow.com/en/products/1877285-2/te-connectivity?region=europe
footprint 18772852
pins: 1, 2

## 1877285-4
designator J?
Connector; Manufacturer_Name: TE Connectivity; Manufacturer_Part_Number: 1877285-4; Datasheet Link: https://www.te.com/commerce/DocumentDelivery/DDEController?Action=srchrtrv&DocNm=1877285&DocType=Customer%20Drawing&DocLang=English&PartCntxt=1877285-4&DocFormat=pdf; Height: 12.5mm; Mouser Part Number: 571-1877285-4; Mouser Price/Stock: https://www.mouser.co.uk/ProductDetail/TE-Connectivity/1877285-4?qs=ka3zfMQDmFkZPBtotDIXvQ%3D%3D; Arrow Part Number: 1877285-4; Arrow Price/Stock: https://www.arrow.com/en/products/1877285-4/te-connectivity?region=nac
footprint 18772854
pins: 1, 2, 3, 4

## 885012106020
designator C?
Capacitor; Manufacturer_Name: Wurth Elektronik; Manufacturer_Part_Number: 885012106020; Datasheet Link: https://www.we-online.com/components/products/download/1.6x0.8x0.8x0+%28rev1%29.pdf; Height: 0.8mm; Mouser Part Number: 710-885012106020; Mouser Price/Stock: https://www.mouser.co.uk/ProductDetail/Wurth-Elektronik/885012106020?qs=0KOYDY2FL28wkv7Maiii5A%3D%3D
footprint CAPC1608X80N
pins: 1, 2

## 885012206095
designator C?
Capacitor; Manufacturer_Name: Wurth Elektronik; Manufacturer_Part_Number: 885012206095; Datasheet Link: https://www.we-online.com/components/products/download/1.6x0.8x0.8x0+%28rev1%29.pdf; Height: 0.8mm; Mouser Part Number: 710-885012206095; Mouser Price/Stock: https://www.mouser.co.uk/ProductDetail/Wurth-Elektronik/885012206095?qs=0KOYDY2FL2%2FIErXVpcsrTQ%3D%3D
footprint CAPC1608X80N
pins: 1, 2

## ACT45B-510-2P-TL003
designator FL?
Filter; Manufacturer_Name: TDK; Manufacturer_Part_Number: ACT45B-510-2P-TL003; Datasheet Link: https://product.tdk.com/system/files/dam/doc/product/emc/emc/cmf_cmc/catalog/cmf_automotive_signal_act45b_en.pdf; Height: 3mm; Mouser Part Number: 810-ACT45B5102PTL003; Mouser Price/Stock: https://www.mouser.co.uk/ProductDetail/TDK/ACT45B-510-2P-TL003?qs=U1cgCdF9Le9LCroNYLqljw%3D%3D; Arrow Part Number: ACT45B-510-2P-TL003; Arrow Price/Stock: https://www.arrow.com/en/products/act45b-510-2p-tl003/tdk?utm_currency=USD&region=nac
footprint ACT45B1012PTL003
pins: 1, 2, 3, 4

## AMC23C11DWV
designator IC?
Integrated Circuit; Manufacturer_Name: Texas Instruments; Manufacturer_Part_Number: AMC23C11DWV; Datasheet Link: https://www.ti.com/lit/ds/symlink/amc23c11.pdf; Height: 2.8mm; Mouser Part Number: 595-AMC23C11DWV; Mouser Price/Stock: https://www.mouser.co.uk/ProductDetail/Texas-Instruments/AMC23C11DWV?qs=By6Nw2ByBD0b%2FD7l%2FEQWqQ%3D%3D; Arrow Part Number: AMC23C11DWV; Arrow Price/Stock: https://www.arrow.com/en/products/amc23c11dwv/texas-instruments?utm_currency=USD&region=nac
footprint SOIC127P1150X280-8N
pins: 1 VDD1, 2 IN, 3 REF, 4 GND1, 5 GND2, 6 OUT, 7 LATCH, 8 VDD2

## B560C-13-F
designator D?
Diode; Manufacturer_Name: Diodes Incorporated; Manufacturer_Part_Number: B560C-13-F; Datasheet Link: https://datasheet.lcsc.com/szlcsc/Diodes-Incorporated-B560C-13-F_C85100.pdf; Height: 2.5mm; Mouser Part Number: 621-B560C-F; Mouser Price/Stock: https://www.mouser.co.uk/ProductDetail/Diodes-Incorporated/B560C-13-F?qs=OC0R%252Bhozcm%252BAsjMXklZLIw%3D%3D; Arrow Part Number: B560C-13-F; Arrow Price/Stock: https://www.arrow.com/en/products/b560c-13-f/diodes-incorporated?utm_currency=USD&region=nac
footprint DIOM7959X250N
pins: 1 K, 2 A

## C0603C223K5RAC-TU
designator C?
Capacitor; Manufacturer_Name: KEMET; Manufacturer_Part_Number: C0603C223K5RAC-TU; Datasheet Link: https://www.kemet.com/specsheet/C0603C223K5RACTU; Height: 0.87mm
footprint CAPC1608X87N
pins: 1, 2

## C0805C103F1GACAUTO
designator C?
Capacitor; Manufacturer_Name: Yageo Group; Manufacturer_Part_Number: C0805C103F1GACAUTO; Datasheet Link: https://www.yageogroup.com/content/datasheet/asset/file/KEM_C1022_C0G_AUTO_SMD; Height: 1.1mm; Mouser Part Number: 80-C0805C103F1GAUTO; Mouser Price/Stock: https://www.mouser.co.uk/ProductDetail/KEMET/C0805C103F1GACAUTO?qs=SKxV22VtNmdH%252BCKBcUCnZA%3D%3D; Arrow Part Number: C0805C103F1GACAUTO; Arrow Price/Stock: https://www.arrow.com/en/products/c0805c103f1gacauto/kemet-corporation?utm_currency=USD&region=nac
footprint C0805
pins: 1, 2

## C1206C180FGGACTU
designator C?
Capacitor; Manufacturer_Name: KEMET; Manufacturer_Part_Number: C1206C180FGGACTU; Datasheet Link: https://content.kemet.com/datasheets/KEM_C1009_C0G_HV_SMD.pdf
footprint C1206
pins: 1, 2

## C1210C102JDGACAUTO
designator C?
Capacitor; Manufacturer_Name: Yageo Group; Manufacturer_Part_Number: C1210C102JDGACAUTO; Datasheet Link: https://www.yageogroup.com/content/datasheet/asset/file/KEM_C1080_C0G_HV_AUTO_SMD; Mouser Part Number: 80-C1210C102JDGAUTO; Mouser Price/Stock: https://www.mouser.co.uk/ProductDetail/KEMET/C1210C102JDGACAUTO?qs=f9yNj16SXrIz1%252BjZlRLS%2FQ%3D%3D
footprint C1210
pins: 1, 2

## CC0603KRX5R8BB105
designator C?
Capacitor; Manufacturer_Name: YAGEO; Manufacturer_Part_Number: CC0603KRX5R8BB105; Datasheet Link: https://www.yageo.com/en/Chart/Download/pdf/CC0603KRX5R8BB105; Height: 0.9mm; Mouser Part Number: 603-CC603KRX5R8BB105; Mouser Price/Stock: https://www.mouser.co.uk/ProductDetail/YAGEO/CC0603KRX5R8BB105?qs=BKNoF%2F0xMNuZVooGAHMQbg%3D%3D; Arrow Part Number: CC0603KRX5R8BB105; Arrow Price/Stock: https://www.arrow.com/en/products/cc0603krx5r8bb105/yageo
footprint CAPC1608X90N
pins: 1, 2

## CFB750-300S24
designator PS?
Power Supply; Manufacturer_Name: Cincon; Manufacturer_Part_Number: CFB750-300S24; Datasheet Link: https://www.cincon.com/productdownload/SPEC-CFB750-300S-V11.pdf; Height: 12.7mm; Mouser Part Number: 418-CFB750-300S24; Mouser Price/Stock: https://www.mouser.co.uk/ProductDetail/Cincon/CFB750-300S24?qs=W0yvOO0ixfGqq70Hb2lllQ%3D%3D
footprint CFB750300S48
pins: 1 -VIN, 2 +VIN, 3 -ON/OFF, 4 +ON/OFF, 5 +VO_1, 6 +VO_2, 7 +VO_3, 8 -VO_1, 9 -VO_2, 10 -VO_3, 11 -S, 12 +S, 13 TRIM, 14 PC/NC, 15 IOG, 16 AUX, MH1, MH2, MH3, MH4

## CGA4J3X8R1H224K125AB
designator C?
Capacitor; Manufacturer_Name: TDK; Manufacturer_Part_Number: CGA4J3X8R1H224K125AB; Datasheet Link: http://docs-europe.electrocomponents.com/webdocs/14e9/0900766b814e9125.pdf; Height: 1.45mm; Mouser Part Number: 810-CGA4J3X8R1H224KB; Mouser Price/Stock: https://www.mouser.co.uk/ProductDetail/TDK/CGA4J3X8R1H224K125AB?qs=7GgVL%252Bg%252BDMFbtll9V%2FTLEA%3D%3D
footprint CGA4J2NP01H223J125AA
pins: 1, 2

## CL10A106KQ8NNNL
designator C?
Capacitor; Manufacturer_Name: SAMSUNG; Manufacturer_Part_Number: CL10A106KQ8NNNL; Datasheet Link: https://product.samsungsem.com/mlcc/basic-search.do?partNumber=CL10A106KQ8NNN; Height: 0.9mm; Mouser Part Number: N/A; Mouser Price/Stock: https://www.mouser.com/Search/Refine.aspx?Keyword=N%2FA; Arrow Part Number: CL10A106KQ8NNNL; Arrow Price/Stock: https://www.arrow.com/en/products/cl10a106kq8nnnl/samsung-electro-mechanics
footprint CAPC1608X90N
pins: 1, 2

## CL10A226MP8NUNE
designator C?
Capacitor; Manufacturer_Name: SAMSUNG; Manufacturer_Part_Number: CL10A226MP8NUNE; Datasheet Link: https://datasheet.datasheetarchive.com/originals/distributors/Datasheets-DGA10/2407063.pdf; Height: 1.05mm; Mouser Part Number: 187-CL10A226MP8NUNE; Mouser Price/Stock: https://www.mouser.co.uk/ProductDetail/Samsung-Electro-Mechanics/CL10A226MP8NUNE?qs=gRKWieUq2Hb5O0PTfRKzDQ%3D%3D; Arrow Part Number: CL10A226MP8NUNE; Arrow Price/Stock: https://www.arrow.com/en/products/cl10a226mp8nune/samsung-electro-mechanics?utm_currency=USD&region=europe
footprint CAPC1608X105N
pins: 1, 2

## CL31B106KBHNNNE
designator C?
Capacitor; Manufacturer_Part_Number: CL31B106KBHNNNE; Description: Samsung; Datasheet Link: https://datasheet.datasheetarchive.com/originals/distributors/DKDS-19/375194.pdf; Height: 1.8mm; Manufacturer_Name: SAMSUNG; Mouser Part Number: 187-CL31B106KBHNNNE; Mouser Price/Stock: https://www.mouser.co.uk/ProductDetail/Samsung-Electro-Mechanics/CL31B106KBHNNNE?qs=T0XSgvH75d4ZN8WrMi8xmQ%3D%3D; Arrow Part Number: CL31B106KBHNNNE; Arrow Price/Stock: https://www.arrow.com/en/products/cl31b106kbhnnne/samsung-electro-mechanics.html?utm_currency=USD&region=nac
footprint CAPC3216X180N
pins: 1, 2

## CL31B225KCHSNNE
designator C?
Capacitor; Manufacturer_Name: SAMSUNG; Manufacturer_Part_Number: CL31B225KCHSNNE; Datasheet Link: https://ms.componentsearchengine.com/Datasheets/2/CL31B225KCHSNNE.pdf; Height: 1.8mm; Mouser Part Number: 187-CL31B225KCHSNNE; Mouser Price/Stock: https://www.mouser.co.uk/ProductDetail/Samsung-Electro-Mechanics/CL31B225KCHSNNE?qs=EqekMjxHB%2FO4jGlN37Y2aA%3D%3D; Arrow Part Number: CL31B225KCHSNNE; Arrow Price/Stock: https://www.arrow.com/en/products/cl31b225kchsnne/samsung-electro-mechanics?utm_currency=USD&region=nac
footprint CAPC3216X180N
pins: 1, 2